# Altium footprint library CON-JST.PcbLib: 1 footprints
Each footprint in its own frame and in the unit in brackets; x right, y up, seen from the top. Pads: shape width x height; smd on the part's side, far side on the other; paste and mask are expansions set on the pad; w line width, h text height; cw(c..) or ccw(c..) is an arc to the next point about the centre after c.
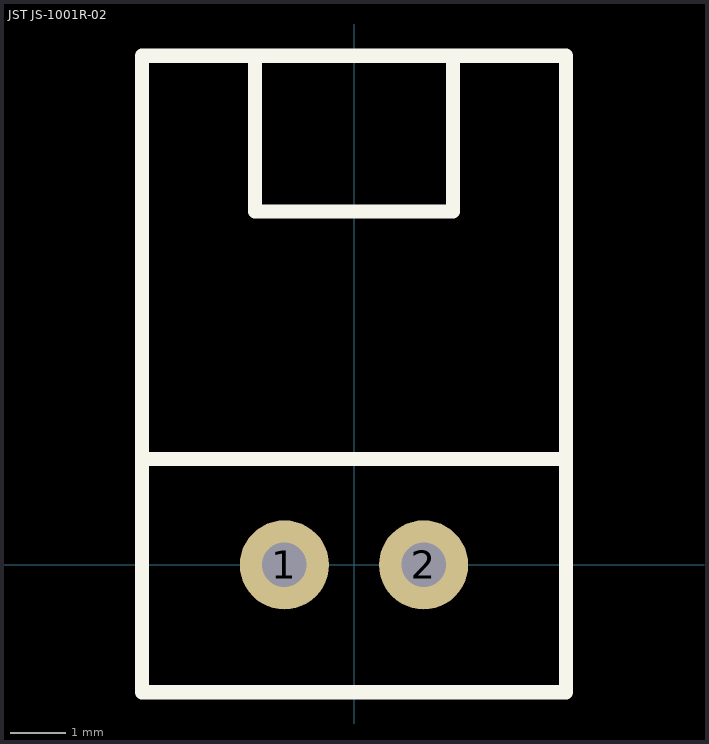
[diagram p0: the footprint, top view; thin cyan lines are the x and y axes]

## JST JS-1001R-02 [mm] "JST JS-1001R-02"
pads (2):
  round 1.6 hole 0.8: 1(-1.25,0) 2(1.25,0)
Top Overlay:
  lines w0.254: -3.81,1.905 3.683,1.905 ; -1.778,9.144 -1.778,6.35 1.778,6.35 1.778,9.144 ; -3.81,-2.286 -3.81,9.144 3.81,9.144 3.81,-2.286 -3.81,-2.286
3D body "CON-JST-JS-1001R-02.stp": height 5.75, standoff -3.4, extent -3.762,-2.325 3.738,9.175